# EAGLE library part 61900711121 (library Wire_to_Board_Connectors_rev15d)
WR-WTB 2.54mm Male Locking Header, 7 Pins=>Code : Con_WTB_2.54_PCB_THT_61900711121 <http://katalog.we-online.de/media/thumbs2/eican/thb_Con_WTB_2.54_PCB_THT_6190xx11121_pf2.jpg> Details see: http://katalog.we-online.de/en/em/619_0xx_111_21 Created 2014-06-05, Karrer Zheng 2014 (C) Würth Elektronik
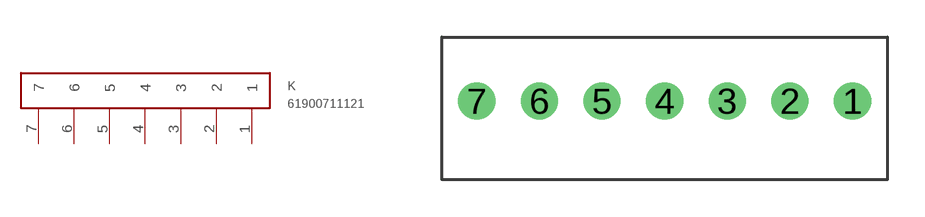
[diagram p6: symbol with the pads of 61900711121; footprint 61900711121]

Designator prefix K

## 61900711121  [61900711121]
1  1  pas
2  2  pas
3  3  pas
4  4  pas
5  5  pas
6  6  pas
7  7  pas

## Footprint 61900711121 (pad centres in mm)
WR-WTB 2.54mm Male Locking Header, 7 Pins
drill 1: 1 1.27,0; 2 -1.27,0; 3 -3.81,0; 4 -6.35,0; 5 -8.89,0; 6 -11.43,0; 7 -13.97,0